# Altium schematic symbol library mylib.SchLib: 7 symbols
Pins are listed as number, name and electrical type; pins without a type are passive.

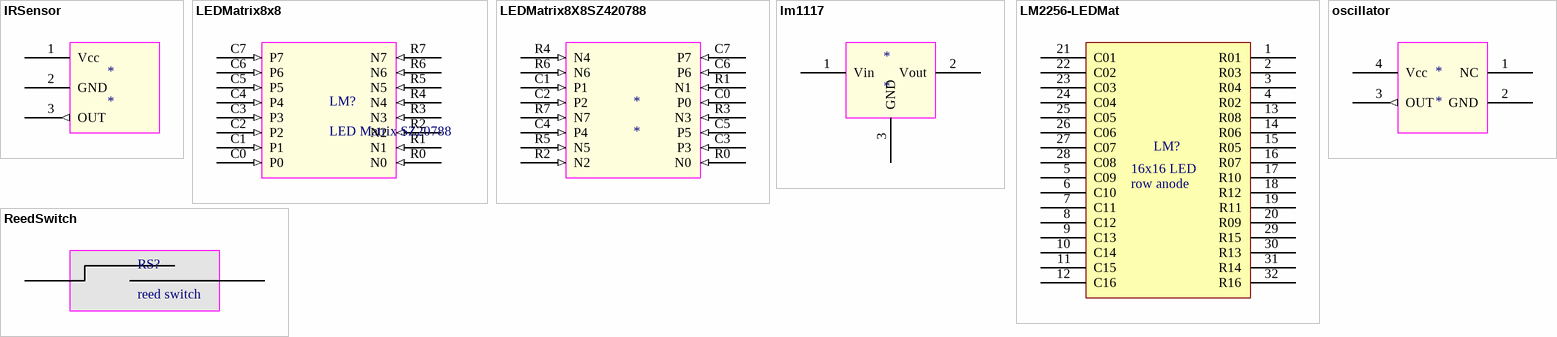
[diagram p0: symbols IRSensor to ReedSwitch]

## IRSensor
designator *
footprint IRSENSOR_4PIN
pins: 1 Vcc, 2 GND, 3 OUT (out), 4 hidden

## LEDMatrix8x8
designator LM?, comment LED Matrix SZ20788
footprint SZ20788
pins: C0 P0 (in) "column 0", C1 P1 (in) "column 1", C2 P2 (in) "column 2", C3 P3 (in) "column 3", C4 P4 (in) "column 4", C5 P5 (in) "column 5", C6 P6 (in) "column 6", C7 P7 (in) "column 7", R0 N0 (in) "row 0", R1 N1 (in) "row 1", R2 N2 (in) "row 2", R3 N3 (in) "row 3", R4 N4 (in) "row 4", R5 N5 (in) "row 5", R6 N6 (in) "row 6", R7 N7 (in) "row 7"

## LEDMatrix8X8SZ420788
designator *
footprint SZ20788
pins: C0 P0 (in) "column 0", C1 P1 (in) "column 1", C2 P2 (in) "column 2", C3 P3 (in) "column 3", C4 P4 (in) "column 4", C5 P5 (in) "column 5", C6 P6 (in) "column 6", C7 P7 (in) "column 7", R0 N0 (in) "row 0", R1 N1 (in) "row 1", R2 N2 (in) "row 2", R3 N3 (in) "row 3", R4 N4 (in) "row 4", R5 N5 (in) "row 5", R6 N6 (in) "row 6", R7 N7 (in) "row 7"

## lm1117
designator *
footprint SOT-223
pins: 1 Vin, 2 Vout, 3 GND

## LM2256-LEDMat
designator LM?  (value not drawn)
footprint LM2256
pins: 1 R01, 2 R03, 3 R04, 4 R02, 5 C09, 6 C10, 7 C11, 8 C12, 9 C13, 10 C14, 11 C15, 12 C16, 13 R08, 14 R06, 15 R05, 16 R07, 17 R10, 18 R12, 19 R11, 20 R09, 21 C01, 22 C02, 23 C03, 24 C04, 25 C05, 26 C06, 27 C07, 28 C08, 29 R15, 30 R13, 31 R14, 32 R16
text: 16x16 LED; row anode

## oscillator
designator *
footprint osc1
pins: 1 NC, 2 GND, 3 OUT (out), 4 Vcc

## ReedSwitch
designator RS?, comment reed switch
footprint reedswitch_default
pins: 0, 1